# Altium schematic symbol library HDR_1X5.SchLib: 1 symbol
Pins are listed as number, name and electrical type; pins without a type are passive.

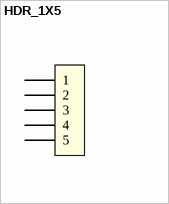
[diagram p0: symbol HDR_1X5]

## HDR_1X5
designator J?
pins: 1, 2, 3, 4, 5